# EAGLE library part ESP-12 (library ESP8266_ESP12_AI-Thinker)
Ai-Thinker ESP12 module with swapped GPIO4 and GPIO5. EN called CH_PD. Technical Specifications: http://wiki.ai-thinker.com/lib/exe/fetch.php/modules/esp-12_wifi.pdf
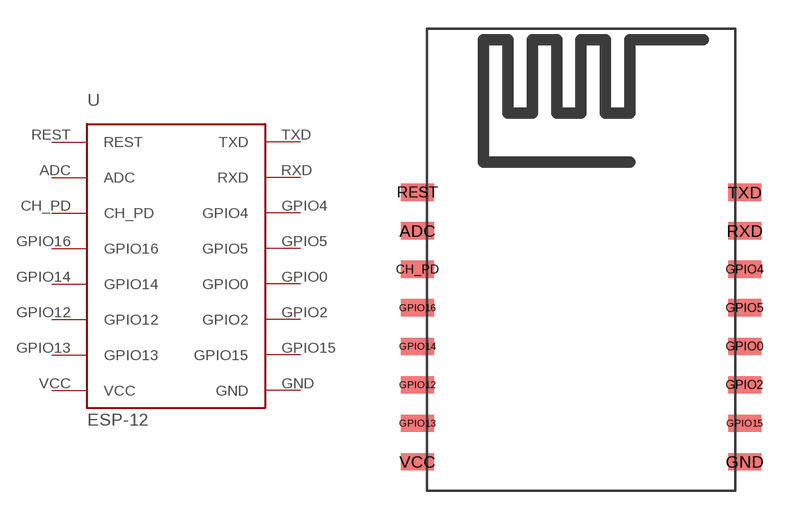
[diagram p0: symbol with the pads of MODULE-16; footprint MODULE-16]

Designator prefix U

## ESP-12  [MODULE-16]
ADC  ADC
CH_PD  CH_PD
GND  GND
GPIO0  GPIO0
GPIO2  GPIO2
GPIO4  GPIO4
GPIO5  GPIO5
GPIO12  GPIO12
GPIO13  GPIO13
GPIO14  GPIO14
GPIO15  GPIO15
GPIO16  GPIO16
REST  REST
RXD  RXD
TXD  TXD
VCC  VCC

## Footprint MODULE-16 (pad centres in mm)
smd 1.7 x 0.9: ADC -8.5,1.5; CH_PD -8.5,-0.5; GND 8.5,-10.5; GPIO0 8.5,-4.5; GPIO2 8.5,-6.5; GPIO4 8.5,-0.5; GPIO5 8.5,-2.5; GPIO12 -8.5,-6.5; GPIO13 -8.5,-8.5; GPIO14 -8.5,-4.5; GPIO15 8.5,-8.5; GPIO16 -8.5,-2.5; REST -8.5,3.5; RXD 8.5,1.5; TXD 8.5,3.5; VCC -8.5,-10.5